# EAGLE library part VX4SUGY91M (library VX4SUGY91M)
SunLED VX4SUGY91M 2X3mm QUAD-LEVEL LED INDICATOR Green/Yellow bicolor quad LED. Black pastic 8 pin through hole right angle. Pins are active high! datasheet: http://www.jameco.com/Jameco/Products/ProdDS/2125464.pdf
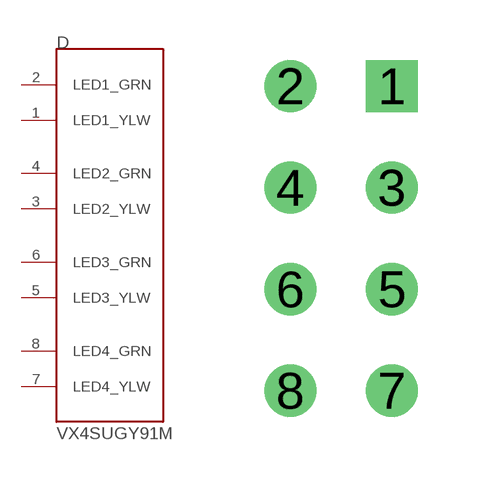
[diagram p0: symbol with the pads of THRU_HOLE; footprint THRU_HOLE]

Designator prefix D

## VX4SUGY91M  [THRU_HOLE]
1  LED1_YLW
2  LED1_GRN
3  LED2_YLW
4  LED2_GRN
5  LED3_YLW
6  LED3_GRN
7  LED4_YLW
8  LED4_GRN

## Footprint THRU_HOLE (pad centres in mm)
Standard 0.1 x 0.1 inch spacing.
drill 0.8 square: 1 1.27,5.08
drill 0.8: 2 -1.27,5.08; 3 1.27,2.54; 4 -1.27,2.54; 5 1.27,0; 6 -1.27,0; 7 1.27,-2.54; 8 -1.27,-2.54